# EAGLE library part EC2-5NU (library USB Switch PCB)
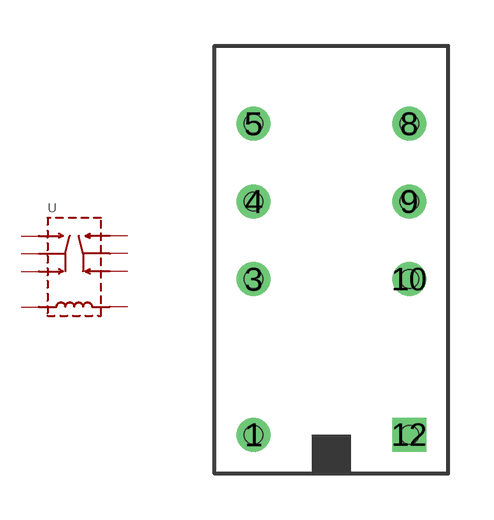
[diagram p0: symbol with the pads of EC2-5NU; footprint EC2-5NU]

Designator prefix U

## EC2-5NUEC2-5NU  [EC2-5NU]
1  P
3  B1
4  C1
5  A1
8  A2
9  C2
10  B2
12  N

## Footprint EC2-5NU (pad centres in mm)
drill 0.6: 1 -2.54,-2.54; 3 -2.54,2.54; 4 -2.54,5.08; 5 -2.54,7.62; 8 2.54,7.62; 9 2.54,5.08; 10 2.54,2.54
drill 0.6 square: 12 2.54,-2.54
hole 0.6 at -2.54,-2.54
hole 0.6 at -2.54,2.54
hole 0.6 at -2.54,5.08
hole 0.6 at -2.54,7.62
hole 0.6 at 2.54,7.62
hole 0.6 at 2.54,5.08
hole 0.6 at 2.54,2.54
hole 0.6 at 2.54,-2.54